# EAGLE library part HAIRBALL (library Custom Block Diagram Parts)
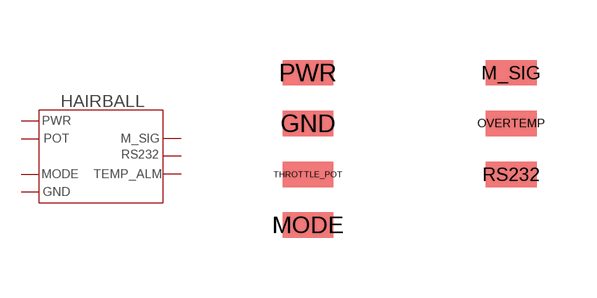
[diagram p0: symbol with the pads of HAIRBALL; footprint HAIRBALL]

Designator prefix -

## HAIRBALL  [HAIRBALL]
GND  GND
M_SIG  MOTOR_SIG
MODE  MODE
OVERTEMP  OVERTEMP
PWR  PWR
RS232  RS232
THROTTLE_POT  THROTTLE_POT

## Footprint HAIRBALL (pad centres in mm)
smd 1.27 x 0.635: GND -3.81,2.54; M_SIG 1.27,3.81; MODE -3.81,0; OVERTEMP 1.27,2.54; PWR -3.81,3.81; RS232 1.27,1.27; THROTTLE_POT -3.81,1.27